# EAGLE library part ATTINY85-20PU (library LED_Matrix)
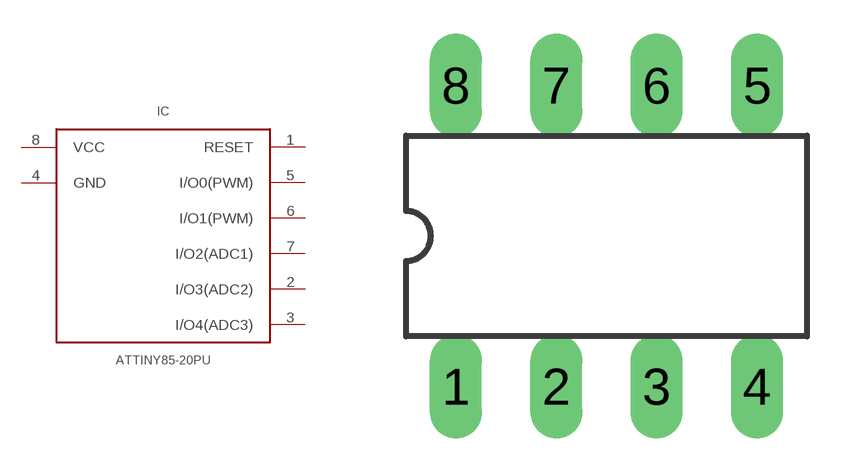
[diagram p4: symbol with the pads of DIL8; footprint DIL8]

Designator prefix IC

## ATTINY85-20PU  [DIL8]
1  RESET
2  I/O3(ADC2)
3  I/O4(ADC3)
4  GND
5  I/O0(PWM)
6  I/O1(PWM)
7  I/O2(ADC1)
8  VCC

## Footprint DIL8 (pad centres in mm)
Dual In Line package type P
drill 0.813 long: 1 -3.81,-3.81; 2 -1.27,-3.81; 3 1.27,-3.81; 4 3.81,-3.81; 5 3.81,3.81; 6 1.27,3.81; 7 -1.27,3.81; 8 -3.81,3.81